# EAGLE library part STM32F303RX (library integrated_adc)
STM32F303Rx 32-bit ARM microcontroller. 512kB of flash, 80kB of RAM.
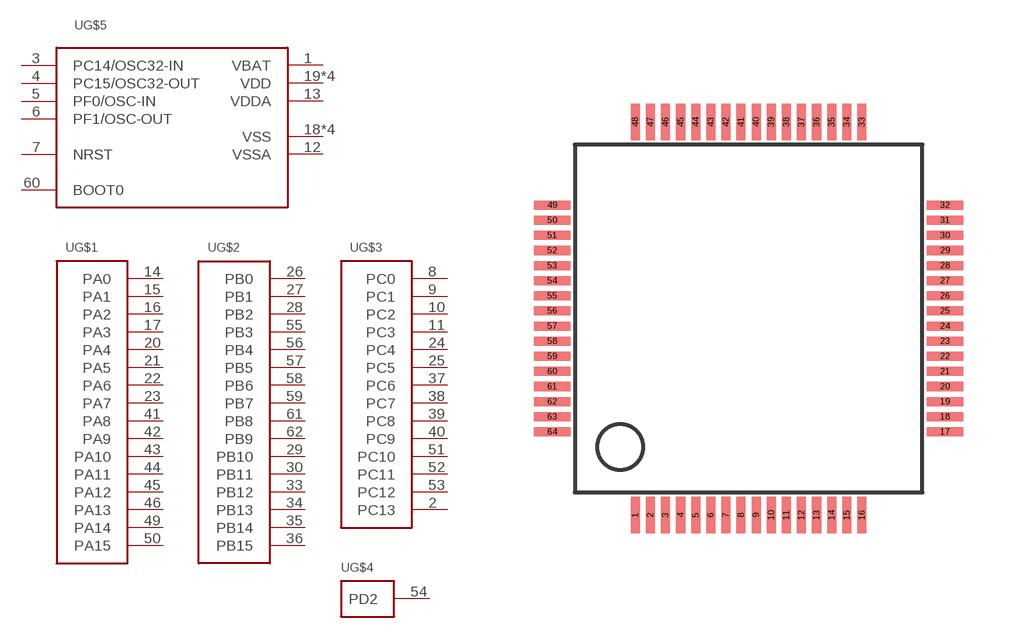
[diagram p0: symbol with the pads of LQFP64; footprint LQFP64]

Designator prefix U; gates G$1=STM32F303RX-PORTA G$2=STM32F303RX-PORTB G$3=STM32F303RX-PORTC G$4=STM32F303RX-PORTD G$5=STM32F303RX-PWR

## STM32F303RX  [LQFP64]
1  G$5:VBAT
2  G$3:PC13
3  G$5:PC14/OSC32-IN
4  G$5:PC15/OSC32-OUT
5  G$5:PF0/OSC-IN
6  G$5:PF1/OSC-OUT
7  G$5:NRST
8  G$3:PC0
9  G$3:PC1
10  G$3:PC2
11  G$3:PC3
12  G$5:VSSA
13  G$5:VDDA
14  G$1:PA0
15  G$1:PA1
16  G$1:PA2
17  G$1:PA3
18  G$5:VSS
19  G$5:VDD
20  G$1:PA4
21  G$1:PA5
22  G$1:PA6
23  G$1:PA7
24  G$3:PC4
25  G$3:PC5
26  G$2:PB0
27  G$2:PB1
28  G$2:PB2
29  G$2:PB10
30  G$2:PB11
31  G$5:VSS
32  G$5:VDD
33  G$2:PB12
34  G$2:PB13
35  G$2:PB14
36  G$2:PB15
37  G$3:PC6
38  G$3:PC7
39  G$3:PC8
40  G$3:PC9
41  G$1:PA8
42  G$1:PA9
43  G$1:PA10
44  G$1:PA11
45  G$1:PA12
46  G$1:PA13
47  G$5:VSS
48  G$5:VDD
49  G$1:PA14
50  G$1:PA15
51  G$3:PC10
52  G$3:PC11
53  G$3:PC12
54  G$4:PD2
55  G$2:PB3
56  G$2:PB4
57  G$2:PB5
58  G$2:PB6
59  G$2:PB7
60  G$5:BOOT0
61  G$2:PB8
62  G$2:PB9
63  G$5:VSS
64  G$5:VDD

## Footprint LQFP64 (pad centres in mm)
LQFP64 Footprint for STM32 0.5mm pin pitch.
smd 0.3 x 1.2: 1 -3.75,-6.5; 2 -3.25,-6.5; 3 -2.75,-6.5; 4 -2.25,-6.5; 5 -1.75,-6.5; 6 -1.25,-6.5; 7 -0.75,-6.5; 8 -0.25,-6.5; 9 0.25,-6.5; 10 0.75,-6.5; 11 1.25,-6.5; 12 1.75,-6.5; 13 2.25,-6.5; 14 2.75,-6.5; 15 3.25,-6.5; 16 3.75,-6.5; 33 3.75,6.5; 34 3.25,6.5; 35 2.75,6.5; 36 2.25,6.5; 37 1.75,6.5; 38 1.25,6.5; 39 0.75,6.5; 40 0.25,6.5; 41 -0.25,6.5; 42 -0.75,6.5; 43 -1.25,6.5; 44 -1.75,6.5; 45 -2.25,6.5; 46 -2.75,6.5; 47 -3.25,6.5; 48 -3.75,6.5
smd 1.2 x 0.3: 17 6.5,-3.75; 18 6.5,-3.25; 19 6.5,-2.75; 20 6.5,-2.25; 21 6.5,-1.75; 22 6.5,-1.25; 23 6.5,-0.75; 24 6.5,-0.25; 25 6.5,0.25; 26 6.5,0.75; 27 6.5,1.25; 28 6.5,1.75; 29 6.5,2.25; 30 6.5,2.75; 31 6.5,3.25; 32 6.5,3.75; 49 -6.5,3.75; 50 -6.5,3.25; 51 -6.5,2.75; 52 -6.5,2.25; 53 -6.5,1.75; 54 -6.5,1.25; 55 -6.5,0.75; 56 -6.5,0.25; 57 -6.5,-0.25; 58 -6.5,-0.75; 59 -6.5,-1.25; 60 -6.5,-1.75; 61 -6.5,-2.25; 62 -6.5,-2.75; 63 -6.5,-3.25; 64 -6.5,-3.75